# EAGLE library part USB-MALE (library usb)
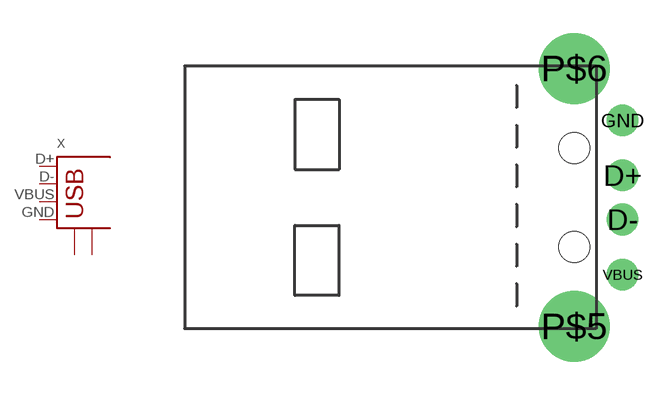
[diagram p3: symbol with the pads of USB-A-MH; footprint USB-A-MH]

Designator prefix X

## USB-MALE-A-H  [USB-A-MH]
D+  D+  pas
D-  D-  pas
GND  GND  pas
P$5  P$1  pas
P$6  P$2  pas
VBUS  VBUS  pas

## Footprint USB-A-MH (pad centres in mm)
USB Series A Hole Mounted Cable side
drill 0.92: D+ 2.2,1; D- 2.2,-1; GND 2.2,3.5; VBUS 2.2,-3.5
drill 2.2: P$5 0,-5.85; P$6 0,5.85
hole 1.4 at 0,2.25
hole 1.4 at 0,-2.25